# Altium schematic symbol library intrgrat_lib.SchLib: 36 symbols
Pins are listed as number, name and electrical type; pins without a type are passive.

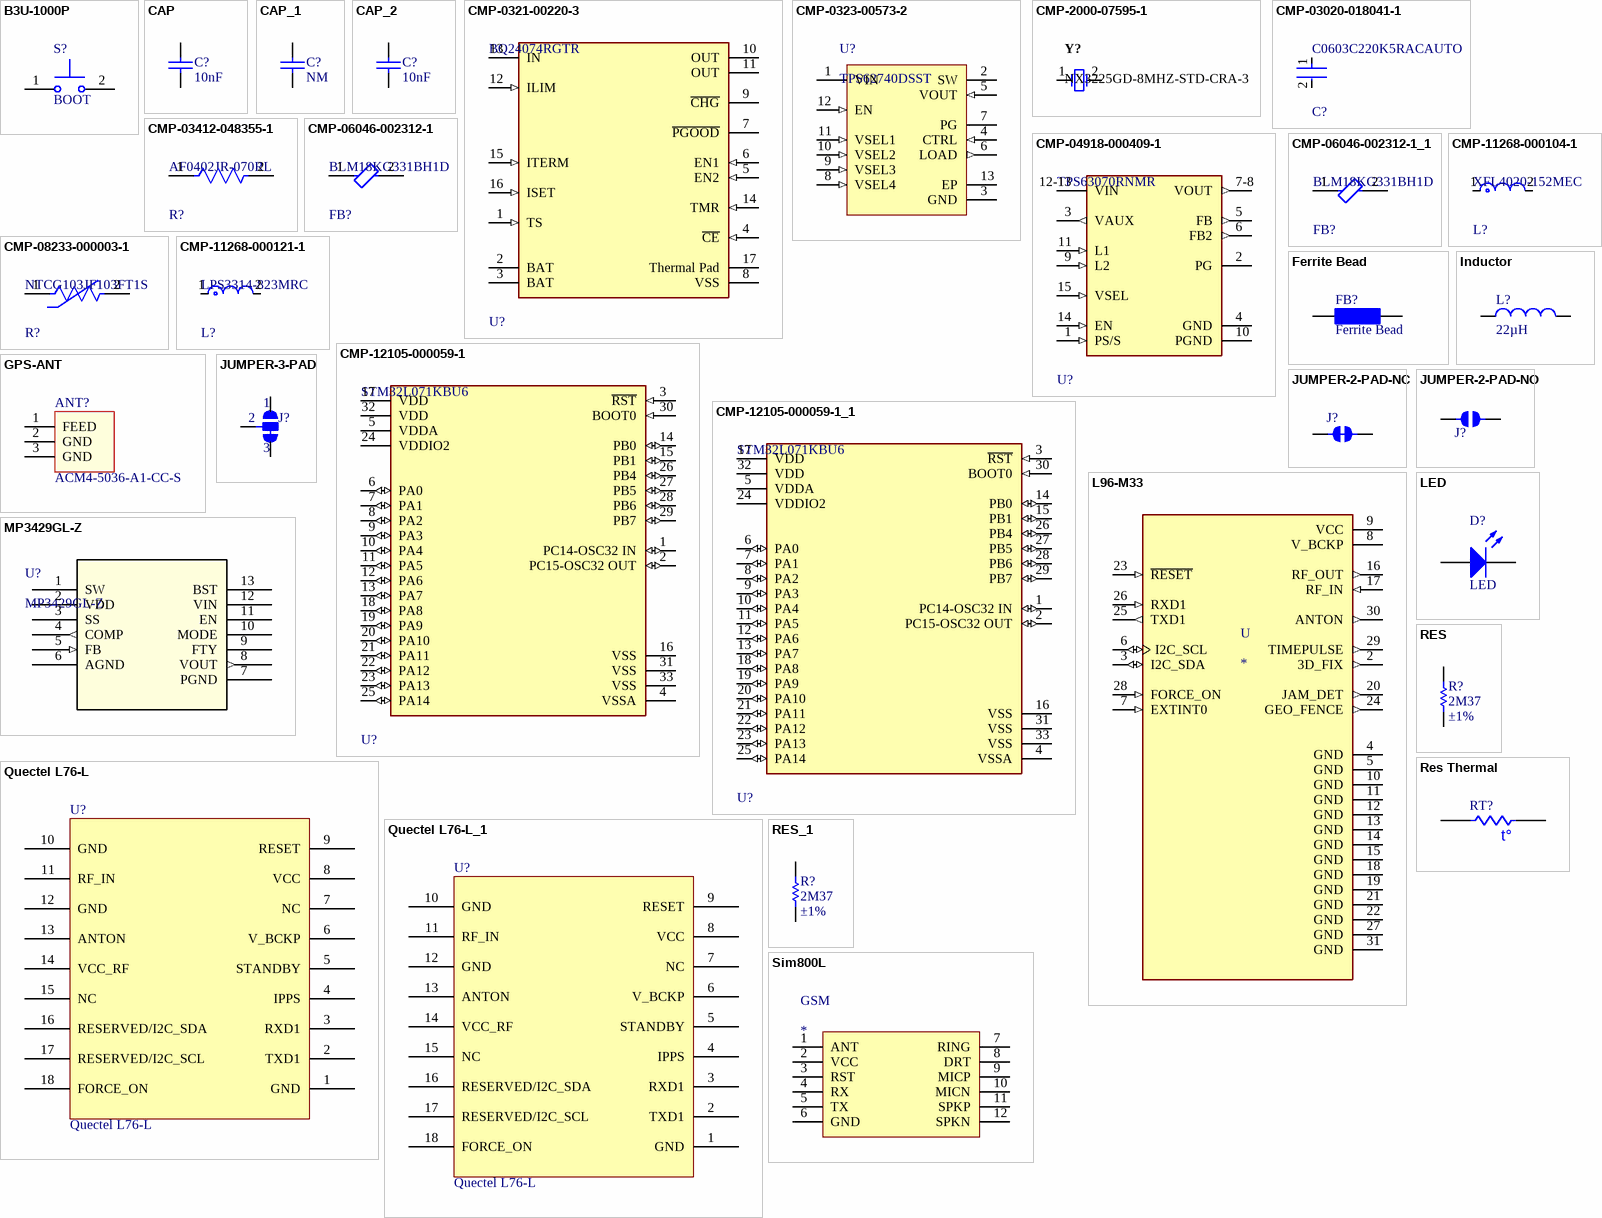
[diagram p0: symbols B3U-1000P to Sim800L]

## B3U-1000P
designator S?, comment BOOT
SWITCH TACTILE SPST-NO 0.05A 12V; PartNumber: B3U-1000P; Manufacturer: Omron Electronic Components; SymbolCreator: a0412235; VDC_V: 12; SwitchFunction: Off-Mom; PositionCount: 1; CurrentRating_mA: 50; SymbolVersion: 2012-10-29; MountType: SMT; ComponentLink1Description: Datasheet URL; ComponentLink1URL: http://www.components.omron.com/components/web/PDFLIB.nsf/0/2DD3893C7DD33E9E862572900079E9D6/$file/B3U_1110.pdf; RoHS: Y; Circuit: SPST-NO; Orientation: Top Actuated; CompType: Switch; PackageReference: 3x1.6x2.5mm; Publisher: Texas Instruments; LatestRevisionDate: 2015-03-16; Supplier 1: Digi-Key; Supplier Part Number 1: SW1020CT-ND; Supplier 2: Mouser; Supplier Part Number 2: 653-B3U-1000P; Supplier 3: Farnell; Supplier Part Number 3: 1333652
footprint SW_B3U-1000P
pins: 1, 2

## CAP
designator C?  value 10nF  (hidden comment: CAP)
CAP CER 0.1UF 10V X7R 0603; Part Number: C00062; Manufacturer: KEMET - Electronic Component; Manufacturer Part Number: C0603C104K8RACTU; Tolerance: ±10%; Supplier 1: Digi-Key; Supplier Part Number 1: 399-1095-2-ND; HelpURL: http://www.kemet.com/Lists/ProductCatalog/Attachments/53/KEM_C1002_X7R_SMD.pdf; Operating Temperature: -55°C ~ 125°C; Type: CER; Temperature Coefficient: X7R; Voltage: 10V
footprint C0402 - duplicate
footprint C0603
footprint C0805
footprint C1206
pins: 1, 2

## CAP_1
designator C?, comment value NM  (hidden comment: CAP)
CAP CER 0.1UF 10V X7R 0603; Part Number: C00062; Manufacturer: KEMET - Electronic Component; Manufacturer Part Number: C0603C104K8RACTU; Tolerance: ±10%; Supplier 1: Digi-Key; Supplier Part Number 1: 399-1095-2-ND; HelpURL: http://www.kemet.com/Lists/ProductCatalog/Attachments/53/KEM_C1002_X7R_SMD.pdf; Operating Temperature: -55°C ~ 125°C; Type: CER; Temperature Coefficient: X7R; Voltage: 10V
footprint C0402
footprint C0603
footprint C0805
footprint C1206
footprint C0201 (Surface Mount Ceramic Chip Capacitors – C0201 Series)
pins: 1, 2

## CAP_2
designator C?, comment value 10nF  (hidden comment: CAP)
CAP CER 0.1UF 10V X7R 0603; Part Number: C00062; Manufacturer: KEMET - Electronic Component; Manufacturer Part Number: C0603C104K8RACTU; Tolerance: ±10%; Supplier 1: Digi-Key; Supplier Part Number 1: 399-1095-2-ND; HelpURL: http://www.kemet.com/Lists/ProductCatalog/Attachments/53/KEM_C1002_X7R_SMD.pdf; Operating Temperature: -55°C ~ 125°C; Type: CER; Temperature Coefficient: X7R; Voltage: 10V
footprint C0402
footprint C0603
footprint C0805
footprint C1206
pins: 1, 2

## CMP-0321-00220-3
designator U?, comment BQ24074RGTR
IC LI-ION CHARGE MGMT 16-QFN; Fault Protection: Over Voltage; Max Charge Current: 1.5A; Interface: USB; Max Supply Voltage: 10.2V; Number of Cells: 1; Battery Pack Voltage: 4.2V; Min Supply Voltage: 4.35V; Battery Chemistry: LITHIUM-ION; Min Input Voltage: 4.3V; Lead Free: Lead Free; Max Operating Temperature: 125°C; RoHS Compliant: Yes; Contact Plating: Gold; Min Operating Temperature: -40°C; Weight: 0.000808oz; Package Quantity: 3000; Radiation Hardening: No; Case/Package: VQFN; Output Voltage: 4.2V; Packaging: Tape and Reel; Series: -; Output Current: 1.5A; Number of Pins: 16
footprint FP-RGT0016C-MFG
footprint FP-RGT0016C-IPC_C
footprint FP-RGT0016C-IPC_B
footprint FP-RGT0016C-IPC_A
pins: 1 TS (in), 2 BAT (power), 3 BAT (power), 4 ~{CE} (in), 5 EN2 (in), 6 EN1 (in), 7 ~{PGOOD} (hiz), 8 VSS (power), 9 ~{CHG} (hiz), 10 OUT (power), 11 OUT (power), 12 ILIM (in), 13 IN (power), 14 TMR (in), 15 ITERM (in), 16 ISET (in), 17 Thermal Pad (power)

## CMP-0323-00573-2
designator U?, comment TPS62740DSST
Step Down Converter For Low Power Applications, 2.2 to 5.5 V VIN, -40 to 85 degC, 12-Pin WSON (DSS), RoHS, Tape and Reel; VIN Min: 2.2 V; VOUT Max: 3.3 V; VOUT Min: 1.8 V; VIN Max: 5.5 V; PackageVersion: 4209244/C, 07/2011; ComponentLink1URL: http://www.ti.com/; Packing: Tape and Reel; PartNumber: TPS62740; ComponentLink2URL: http://www.ti.com/lit/ds/symlink/tps62740.pdf; RoHS: TRUE; ComponentLink3Description: Package Specification; Temperature Min: -40 degC; ComponentLink1Description: Manufacturer URL; PackageReference: DSS0012A; ComponentLink2Description: Datasheet; DatasheetVersion: SLVSB02B; Temperature Max: 85 degC; ComponentLink3URL: http://www.ti.com/litv/pdf/mpds336b; PackageDescription: 12-Pin Plastic Small Outline, Body 3 x 2 mm, Pitch 0.5 mm; Mounting Technology: Surface Mount
footprint DSS0012A_V (SON, 12-Leads, Body 2x3mm, Pitch 0.5mm, Thermal Pad 2x0.9mm, TI Recommended)
pins: 1 VIN (power) "VIN power supply pin. Connect this pin close to the VIN terminal of the input capacitor. A ceramic capacitor of 4.7 uF is required.", 2 SW (power) "This is the switch pin and is connected to the internal MOSFET switches. Connect the inductor to this terminal.", 3 GND (power) "GND supply pin. Connect this pin close to the GND terminal of the input and output capacitor.", 4 CTRL (in) "This pin controls the output LOAD pin. With CTRL = low, the output LOAD is disabled. This pin must be terminated.", 5 VOUT (in) "Feedback pin for the internal feedback divider network and regulation loop. An internal load switch is connected between this pin and the LOAD pin. Connect this pin directly to the output capacitor with a short trace.", 6 LOAD (out) "This output is controlled by the CTRL Pin. With CTRL high, an internal load switch connects the LOAD pin to the VOUT pin. The LOAD pin allows to connect / disconnect other system components to the output of the DC/DC (See Datasheet)", 7 PG (hiz) "Power good open drain output. This pin is high impedance to indicate "Power Good". Connect a external pull up resistor to generate a "high" level. If not used, this pin can be left open.", 8 VSEL4 (in) "Output voltage selection pin.", 9 VSEL3 (in) "Output voltage selection pin.", 10 VSEL2 (in) "Output voltage selection pin.", 11 VSEL1 (in) "Output voltage selection pin.", 12 EN (in) "High level enables the devices, low level turns the device into shutdown mode. This pin must be terminated.", 13 EP (power) "Not electrically connected to the IC, but must be soldered. Connect this pad to GND and use it as a central GND plane."

## CMP-2000-07595-1
designator Y?, comment NX3225GD-8MHZ-STD-CRA-3
Crystal Unit, 8 MHz, 8 pF, -40 to 150 degC, 2-Pin SMD, RoHS, Tape and Reel; Manufacturer: NDK; Load Capacitance: 8pF; ESR (Equivalent Series Resistance): 500Ohm; Frequency Tolerance: 50ppm; Frequency Stability: 150ppm; Frequency: 8MHz; Case/Package: SMD/SMT; Datasheet Version: 11/2016; Min Operating Temperature: -40degC; Packaging: TapeandReel; Width: 0.098inch; Package Quantity: 3000; Number of Pins: 2; Package Description: 2-Pin Surface Mount Device, Body 3.2 x 2.5 mm; RoHSCompliant: True; Package Reference: NX3225GD-8MHZ-STD-CRA-3; Datasheet URL: http://www.ndk.com/images/products/catalog/c_NX3225GD-STD-CRA-3_e.pdf; Mounting Technology: SurfaceMount; Length: 0.126inch; Mount: SurfaceMount; Manufacturer URL: http://www.ndk.com/en/; Max Operating Temperature: 150degC; Height: 0.039inch
footprint NDK-NX3225GD-8MHZ-STD-CRA-3_V (SMD, 2-Leads, Body 3.2x2.5mm)
pins: 1, 2

## CMP-03020-018041-1
designator C?, comment C0603C220K5RACAUTO
Cap Ceramic 22pF 50V X7R 10% SMD 0603 125°C Punched Paper T/R; Manufacturer: KEMET; Tolerance: 0.1; Temperature Coefficient: 30ppm/°C; Automotive Grade: Grade 1; Capacitance: 22 pF; Temperature Range High: +125°C; Height: 0.87mm; Automotive: Yes; Temperature Range Low: -55°C; Category: Cap; Digikey Description: Cap Ceramic 22pF 50V X7R 10% SMD 0603 125°C Punched Paper T/R; Temperature Characteristic: X7R; Device Class L3: Ceramic Capacitors; ComponentLink2URL: https://api.kemet.com/component-edge/download/datasheet/C0603C100J5GACAUTO.pdf; Manufacturer Part Number: C0603C220K5RACAUTO; Value: 22 pF; Device Class L1: Passive Components; Package: C0603C-CF; Material: Ceramic; RoHS: TRUE; Lead Free: Yes; ComponentLink2Description: Datasheet; Device Class L2: Capacitors; Mouser Description: Cap Ceramic 22pF 50V X7R 10% SMD 0603 125°C Punched Paper T/R; Temperature: -55°C to +125°C; Octopart: https://octopart.com/c0603c220k5racauto-kemet-70963357; Voltage Rating: 50 V
footprint FP-C0603C-CF-IPC_B
footprint FP-C0603C-CF-MFG
footprint FP-C0603C-CF-IPC_A
footprint FP-C0603C-CF-IPC_C
pins: 1, 2

## CMP-03412-048355-1
designator R?, comment AF0402JR-070RL
Anti-Sulfurated Chip Resistors Automotive Grade 0Ω 0402; Tolerance: 5%; Resistance: 0R; Max Power Dissipation: 63mW; Case Code (Metric): 1005; Packaging: Tape and Reel; Features: Moisture Resistant; Termination: SMD/SMT; Package Quantity: 10000; RoHS Compliant: Yes; Case/Package: 0402; Number of Terminations: 2; Series: AF; Length: 0.039inch; Max Operating Temperature: 155°C; Min Operating Temperature: -55°C; Resistor Type: Thick Film; Height: 0.015inch; Weight: 2.3E-05oz; Width: 0.5mm; Case Code (Imperial): 0402
footprint FP-AF0402-MFG
footprint FP-AF0402-IPC_C
footprint FP-AF0402-IPC_B
footprint FP-AF0402-IPC_A
footprint FP-AF0402-IPC_A
pins: 1, 2

## CMP-04918-000409-1
designator U?, comment TPS63070RNMR
IC REG BCK BST ADJ 3.6A 15VQFN; Synchronous Rectifier: Yes; Output Type: Adjustable; Output Current: 2A; Max Input Voltage: 16V; Switching Frequency: 2.4MHz; Min Output Voltage: 2.5V; Output Configuration: Positive; Min Input Voltage: 2V; Topology: Buck-Boost; Number of Outputs: 1; Max Output Voltage: 9V; Quiescent Current: 50uA; Max Operating Temperature: 125°C; Case/Package: VQFN; Number of Pins: 15; RoHS Compliant: Yes; Mount: Surface Mount; Min Operating Temperature: -40°C; Lead Free: Lead Free; Packaging: Tape and Reel
footprint FP-RNM0015A-MFG
pins: 1 PS/S (in), 2 PG (oc), 3 VAUX (out), 4 GND (power), 5 FB (out), 6 FB2 (out), 7-8 VOUT (out), 9 L2 (in), 10 PGND (power), 11 L1 (in), 12-13 VIN (power), 14 EN (in), 15 VSEL (in)

## CMP-06046-002312-1
designator FB?, comment BLM18KG331BH1D
Chip Ferrite Bead, 0603, 330Ω @ 100MHz, 0.08Ω, 25%, 1.2A; DC Resistance (DCR): 80mR; Number of Lines: 1; Case/Package: 0603; Max Operating Temperature: 150°C; Max Current Rating: 1.2A; Case Code (Metric): 1608; Case Code (Imperial): 0603; RoHS Compliant: Yes; Ratings: AEC-Q200; Min Operating Temperature: -55°C
footprint FP-BLM18-0_15-t0_8-IPC_B
footprint FP-BLM18-0_15-t0_8-IPC_C
footprint FP-BLM18-0_15-t0_8-IPC_A
footprint FP-BLM18-0_15-t0_8-MFG
pins: 1, 2

## CMP-06046-002312-1_1
designator FB?, comment BLM18KG331BH1D
Chip Ferrite Bead, 0603, 330Ω @ 100MHz, 0.08Ω, 25%, 1.2A; DC Resistance (DCR): 80mR; Number of Lines: 1; Case/Package: 0603; Max Operating Temperature: 150°C; Max Current Rating: 1.2A; Case Code (Metric): 1608; Case Code (Imperial): 0603; RoHS Compliant: Yes; Ratings: AEC-Q200; Min Operating Temperature: -55°C
footprint FP-BLM18-0_15-t0_8-IPC_B
footprint FP-BLM18-0_15-t0_8-IPC_C
footprint FP-BLM18-0_15-t0_8-IPC_A
footprint FP-BLM18-0_15-t0_8-MFG
pins: 1, 2

## CMP-08233-000003-1
designator R?, comment NTCG103JF103FT1S
THERMISTOR NTC 10KOHM 3380K 0402; Tolerance: 1%; Packaging: Tape and Reel; Number of Pins: 2; Min Operating Temperature: -40°C; Case/Package: 0402; Mount: Surface Mount; Case Code (Metric): 1005; Max Operating Temperature: 125°C; Case Code (Imperial): 0402
footprint FP-NTCG10-MFG
footprint FP-NTCG10-IPC_C
footprint FP-NTCG10-IPC_A
footprint FP-NTCG10-IPC_B
pins: 1, 2

## CMP-11268-000104-1
designator L?, comment XFL4020-152MEC
Inductor Power Shielded Wirewound 1.5uH 20% 100KHz 9.1A 15.8mOhm DCR 1515 Automotive Embossed Plastic T/R; Core Material: Composite; DC Resistance (DCR): 15.8mR; Saturation Current: 4.1A; Self Resonant Frequency: 59MHz; Tolerance: 20%; Inductance: 1.5uH; Max DC Current: 9.1A; RoHS Compliant: Yes; Max Operating Temperature: 125°C; Length: 4.3mm; Case/Package: SMD/SMT; Mount: Surface Mount; Shielding: Shielded; Min Operating Temperature: -40°C; RMS Current (Irms): 9.1A; Test Frequency: 100kHz; Inductance Tolerance: 20%; REACH SVHC: No SVHC; Packaging: Tape and Reel; Termination: SMD/SMT; Lead Free: Contains Lead; Width: 4.3mm; Series: XFL4020; Height: 2.1mm
footprint FP-XFL4020-MFG
pins: 1, 2

## CMP-11268-000121-1
designator L?, comment LPS3314-823MRC
Fixed Inductors 82uH Shld 20% 260mA 2 Ohms
footprint FP-LPS3314-MFG
pins: 1, 2

## CMP-12105-000059-1
designator U?, comment STM32L071KBU6
IC MCU 32BIT 128KB FLASH 32QFPN; Manufacturer: STMicroelectronics; Number Of Uart Channels: 4; Number Of Adc Channels: 10; Max Junction Temp: +105°C; Number Of Cores: 1; Min Supply Voltage: 1.8V; Interface: I2C,SPI,UART,USART,LIN,IrDA,SMBus,Other; Frequency: 32MHz; Data Bus Width: 32bits; Number Of Timers/Counters: 9; Core Architecture: Arm Cortex-M0+; Number Of I2C Channels: 2; Memory Size: 128KBytes; Ram Size: 20KBytes; Number Of I/Os: 23; Max Supply Voltage: 3.6V; Device Class L3: Microcontrollers; Lead Free: Yes; Memory Type: FLASH; Ambient Temperature Range High: +85°C; RoHS: TRUE; ComponentLink2Description: Datasheet; Device Class L1: Integrated Circuits (ICs); Automotive: No; Temperature Range Low: -40°C; Octopart: https://octopart.com/stm32l071kbu6-stmicroelectronics-67270308; Ipc Land Pattern Name: QFN50P500X500X55-32; Number Of A/D Converters: 1; Height: 0.6mm; Manufacturer Part Number: STM32L071KBU6; Temperature Range High: +85°C; Digikey Description: IC MCU 32BIT 128KB FLASH 32QFPN; Mouser Description: ARM Microcontrollers - MCU; Category: IC; Number Of Spi Channels: 4; ComponentLink2URL: https://www.st.com/resource/en/datasheet/stm32l071cb.pdf; Ambient Temperature Range Low: -40°C; Package: UFQFPN32-A0B8; Device Class L2: Embedded Processors and Controllers; Temperature: -40°C to +85°C
footprint FP-UFQFPN32-A0B8-IPC_B
footprint FP-UFQFPN32-A0B8-MFG
footprint FP-UFQFPN32-A0B8-IPC_C
footprint FP-UFQFPN32-A0B8-IPC_A
pins: 1 PC14-OSC32 IN (io), 2 PC15-OSC32 OUT (io), 3 ~{RST} (in), 4 VSSA (power), 5 VDDA (power), 6 PA0 (io), 7 PA1 (io), 8 PA2 (io), 9 PA3 (io), 10 PA4 (io), 11 PA5 (io), 12 PA6 (io), 13 PA7 (io), 14 PB0 (io), 15 PB1 (io), 16 VSS (power), 17 VDD (power), 18 PA8 (io), 19 PA9 (io), 20 PA10 (io), 21 PA11 (io), 22 PA12 (io), 23 PA13 (io), 24 VDDIO2 (power), 25 PA14 (io), 26 PB4 (io), 27 PB5 (io), 28 PB6 (io), 29 PB7 (io), 30 BOOT0 (in), 31 VSS (power), 32 VDD (power), 33 VSS (power)

## CMP-12105-000059-1_1
designator U?, comment STM32L071KBU6
IC MCU 32BIT 128KB FLASH 32QFPN; Manufacturer: STMicroelectronics; Number Of Uart Channels: 4; Number Of Adc Channels: 10; Max Junction Temp: +105°C; Number Of Cores: 1; Min Supply Voltage: 1.8V; Interface: I2C,SPI,UART,USART,LIN,IrDA,SMBus,Other; Frequency: 32MHz; Data Bus Width: 32bits; Number Of Timers/Counters: 9; Core Architecture: Arm Cortex-M0+; Number Of I2C Channels: 2; Memory Size: 128KBytes; Ram Size: 20KBytes; Number Of I/Os: 23; Max Supply Voltage: 3.6V; Device Class L3: Microcontrollers; Lead Free: Yes; Memory Type: FLASH; Ambient Temperature Range High: +85°C; RoHS: TRUE; ComponentLink2Description: Datasheet; Device Class L1: Integrated Circuits (ICs); Automotive: No; Temperature Range Low: -40°C; Octopart: https://octopart.com/stm32l071kbu6-stmicroelectronics-67270308; Ipc Land Pattern Name: QFN50P500X500X55-32; Number Of A/D Converters: 1; Height: 0.6mm; Manufacturer Part Number: STM32L071KBU6; Temperature Range High: +85°C; Digikey Description: IC MCU 32BIT 128KB FLASH 32QFPN; Mouser Description: ARM Microcontrollers - MCU; Category: IC; Number Of Spi Channels: 4; ComponentLink2URL: https://www.st.com/resource/en/datasheet/stm32l071cb.pdf; Ambient Temperature Range Low: -40°C; Package: UFQFPN32-A0B8; Device Class L2: Embedded Processors and Controllers; Temperature: -40°C to +85°C
footprint FP-UFQFPN32-A0B8-IPC_B
footprint FP-UFQFPN32-A0B8-MFG
footprint FP-UFQFPN32-A0B8-IPC_C
footprint FP-UFQFPN32-A0B8-IPC_A
pins: 1 PC14-OSC32 IN (io), 2 PC15-OSC32 OUT (io), 3 ~{RST} (in), 4 VSSA (power), 5 VDDA (power), 6 PA0 (io), 7 PA1 (io), 8 PA2 (io), 9 PA3 (io), 10 PA4 (io), 11 PA5 (io), 12 PA6 (io), 13 PA7 (io), 14 PB0 (io), 15 PB1 (io), 16 VSS (power), 17 VDD (power), 18 PA8 (io), 19 PA9 (io), 20 PA10 (io), 21 PA11 (io), 22 PA12 (io), 23 PA13 (io), 24 VDDIO2 (power), 25 PA14 (io), 26 PB4 (io), 27 PB5 (io), 28 PB6 (io), 29 PB7 (io), 30 BOOT0 (in), 31 VSS (power), 32 VDD (power), 33 VSS (power)

## Ferrite Bead
designator FB?
PackageDescription: Chip Bead Inductor
footprint L0402
footprint L0603
footprint L0805
pins: 1, 2

## GPS-ANT
designator ANT?, comment ACM4-5036-A1-CC-S
GPS+Glonass Ceramic Chip Antenna, 5.2x3.6x0.7mm; PartNumber: ACM4-5036-A1-CC-S
footprint ANTC5237X07N (Ceramic Chip Antenna, 3-Leads, Body 5.20x3.70mm, IPC Medium Density)
pins: 1 FEED, 2 GND, 3 GND

## Inductor
designator L?  value 22µH  (hidden comment: Inductor)
Manufacturer 1: Coilcraft; Manufacturer Part Number 1: LPS4018-223MR; Current: 830mA; DC Resistance (DCR): 360 mOhms; Frequency - Self Resonant: 9MHz; Material - Core: Ferrite; Tolerance: ±20%; Type: Ferrite Core; Package / Case: LPS4018; Supplier 1: Coilcraft; Supplier Part Number 1: LPS4018-223MR
simulation model INDUCTOR (Inductor)
signal-integrity model Inductor
footprint IND_COILCRAFT_LPS4018 (Shielded Power Inductor, Body 4.0x4.0x1.8mm)
pins: 1, 2

## JUMPER-2-PAD-NC
designator J?  (value not drawn)
Value: JUMPER-2-PAD-NC
footprint JUMPER-2-NC
pins: 1, 2

## JUMPER-2-PAD-NO
designator J?  (value not drawn)
Value: JUMPER-2-PAD-NO
footprint JUMPER-2-NO
pins: 1, 2

## JUMPER-3-PAD
designator J?  (value not drawn)
Value: JUMPER-3-PAD
footprint JUMPER-3-NC
pins: 1, 2, 3

## L96-M33
designator U
L96 is a concurrent multi-GNSS receiver module with embedded chip antenna. With 33 tracking channels, 99 acquisition channels and 210 PRN channels, L96 supports concurrent reception of up to three GNSS systems (GPS+GLONASS+Galileo); MP: L96-M33; MF: Quectel; SnapEDA_Link: https://www.snapeda.com/parts/L96-M33/Quectel/view-part/2780781/?ref=snap; Price: None; Availability: Unavailable; Value: *; Package: None
footprint XCVR_L96-M33
pins: 2 3D_FIX (out), 3 I2C_SDA (io), 4 GND (power), 5 GND (power), 6 I2C_SCL (io), 7 EXTINT0 (in), 8 V_BCKP (power), 9 VCC (power), 10 GND (power), 11 GND (power), 12 GND (power), 13 GND (power), 14 GND (power), 15 GND (power), 16 RF_OUT (out), 17 RF_IN (in), 18 GND (power), 19 GND (power), 20 JAM_DET (out), 21 GND (power), 22 GND (power), 23 ~{RESET} (in), 24 GEO_FENCE (out), 25 TXD1 (out), 26 RXD1 (in), 27 GND (power), 28 FORCE_ON (in), 29 TIMEPULSE (out), 30 ANTON (out), 31 GND (power)

## LED
designator D?
Typical RED GaAs LED; Manufacturer: Lite-On Inc.; PartNumber: LTST-C190GKT; Published: 8-Jun-2000; LatestRevisionDate: 2016-10-04; LatestRevisionNote: Mech Layer 1 removed.; PackageReference: LED-1; Publisher: Walid Balid; PackageDescription: LED; 2 Leads; ComponentLink1Description: Datasheet link; ComponentLink1URL: http://media.digikey.com/pdf/Data%20Sheets/Lite-On%20PDFs/LTST-C190GKT.pdf; RoHS: Y; Supplier 1: Digi-Key; Supplier Part Number 1: 160-1183-1-ND
footprint LED-0603-B; pin to pad 1>A 2>K
footprint LED-0603-G; pin to pad 1>A 2>K
footprint LED-0603-R; pin to pad 1>A 2>K
footprint LED-0603-Y; pin to pad 1>A 2>K
pins: 1 A, 2 K

## MP3429GL-Z
designator U?
21A 16VOUT High-Efficiency Fully Integrated Synchronous High-Power Boost Converter Support 30W Power Load; Manufacturer_Name: Monolithic Power Systems; Copyright: Copyright (C) 2025 Ultra Librarian. All rights reserved.; Manufacturer_Part_Number: MP3429GL-Z; RefDes: RefDes; Type: Type
footprint QFN-3x4_MP3429_MNP
pins: 1 SW, 2 VDD (power), 3 SS, 4 COMP (out), 5 FB (in), 6 AGND (power), 7 PGND (power), 8 VOUT (out), 9 FTY, 10 MODE, 11 EN, 12 VIN (power), 13 BST

## Quectel L76-L
designator U?
Quectel L70  Compact GPS Module  Ultra Low Consumption  Fast Positioning; ComponentLink1Description: Manufacturer URL; ComponentLink1URL: http://www.quectel.com/product/prodetail.aspx?id=30; ComponentLink2Description: Datasheet; ComponentLink2URL: http://www.quectel.com/UploadFile/Product/Quectel_L76_GNSS_Specification_V1.4.pdf
footprint L76
pins: 1 GND, 2 TXD1, 3 RXD1, 4 IPPS, 5 STANDBY, 6 V_BCKP, 7 NC, 8 VCC, 9 RESET, 10 GND, 11 RF_IN, 12 GND, 13 ANTON, 14 VCC_RF, 15 NC, 16 RESERVED/I2C_SDA, 17 RESERVED/I2C_SCL, 18 FORCE_ON

## Quectel L76-L_1
designator U?, comment Quectel L76-L
Quectel L70  Compact GPS Module  Ultra Low Consumption  Fast Positioning; ComponentLink1Description: Manufacturer URL; ComponentLink1URL: http://www.quectel.com/product/prodetail.aspx?id=30; ComponentLink2Description: Datasheet; ComponentLink2URL: http://www.quectel.com/UploadFile/Product/Quectel_L76_GNSS_Specification_V1.4.pdf
footprint L76
pins: 1 GND, 2 TXD1, 3 RXD1, 4 IPPS, 5 STANDBY, 6 V_BCKP, 7 NC, 8 VCC, 9 RESET, 10 GND, 11 RF_IN, 12 GND, 13 ANTON, 14 VCC_RF, 15 NC, 16 RESERVED/I2C_SDA, 17 RESERVED/I2C_SCL, 18 FORCE_ON

## RES
designator R?  value 2M37  Tolerance: ±1%  (hidden comment: RES)
RES SMD 15 OHM 1% 1/10W 0603; Part Number: R00007; Manufacturer: Yageo; Manufacturer Part Number: RC0603FR-0715RL; Temperature Coefficient: ±100ppm/°C; Supplier 1: Digi-Key; Supplier Part Number 1: 311-15.0HRCT-ND; HelpURL: http://www.yageo.com/NewPortal/yageodocoutput?fileName=/pdf/R-Chip/PYu-RC_Group_51_RoHS_L_3.pdf; Power: 1/10W; Operating Temperature: -55°C ~ 155°C
footprint R0402
footprint R0603
footprint R0805
footprint R1206
pins: 1, 2

## Res Thermal
designator RT?  (value not drawn)
Thermistor; Published: 24-Mar-1999; LatestRevisionDate: 29-May-2009; LatestRevisionNote: IPC-7351 Footprint Added.; PackageVersion: Mar-2003; PackageReference: 6-0805; Publisher: Altium Limited; PackageDescription: Chip Resistor 0805 Case Size; Code_IPC: RESC2012
footprint 6-0805_N (Chip Resistor, Body 2.0x1.2mm, IPC Medium Density)
footprint 6-0805_L (Chip Resistor, Body 2.0x1.2mm, IPC High Density)
footprint 6-0805_M (Chip Resistor, Body 2.0x1.2mm, IPC Low Density)
pins: 1, 2
text: t°

## RES_1
designator R?, comment value 2M37  Tolerance: ±1%  (hidden comment: RES)
RES SMD 15 OHM 1% 1/10W 0603; Part Number: R00007; Manufacturer: Yageo; Manufacturer Part Number: RC0603FR-0715RL; Temperature Coefficient: ±100ppm/°C; Supplier 1: Digi-Key; Supplier Part Number 1: 311-15.0HRCT-ND; HelpURL: http://www.yageo.com/NewPortal/yageodocoutput?fileName=/pdf/R-Chip/PYu-RC_Group_51_RoHS_L_3.pdf; Power: 1/10W; Operating Temperature: -55°C ~ 155°C
footprint R0402
footprint R0603
footprint R0805
footprint R1206
pins: 1, 2

## Sim800L
designator GSM
footprint Sim800L
pins: 1 ANT, 2 VCC, 3 RST, 4 RX, 5 TX, 6 GND, 7 RING, 8 DRT, 9 MICP, 10 MICN, 11 SPKP, 12 SPKN

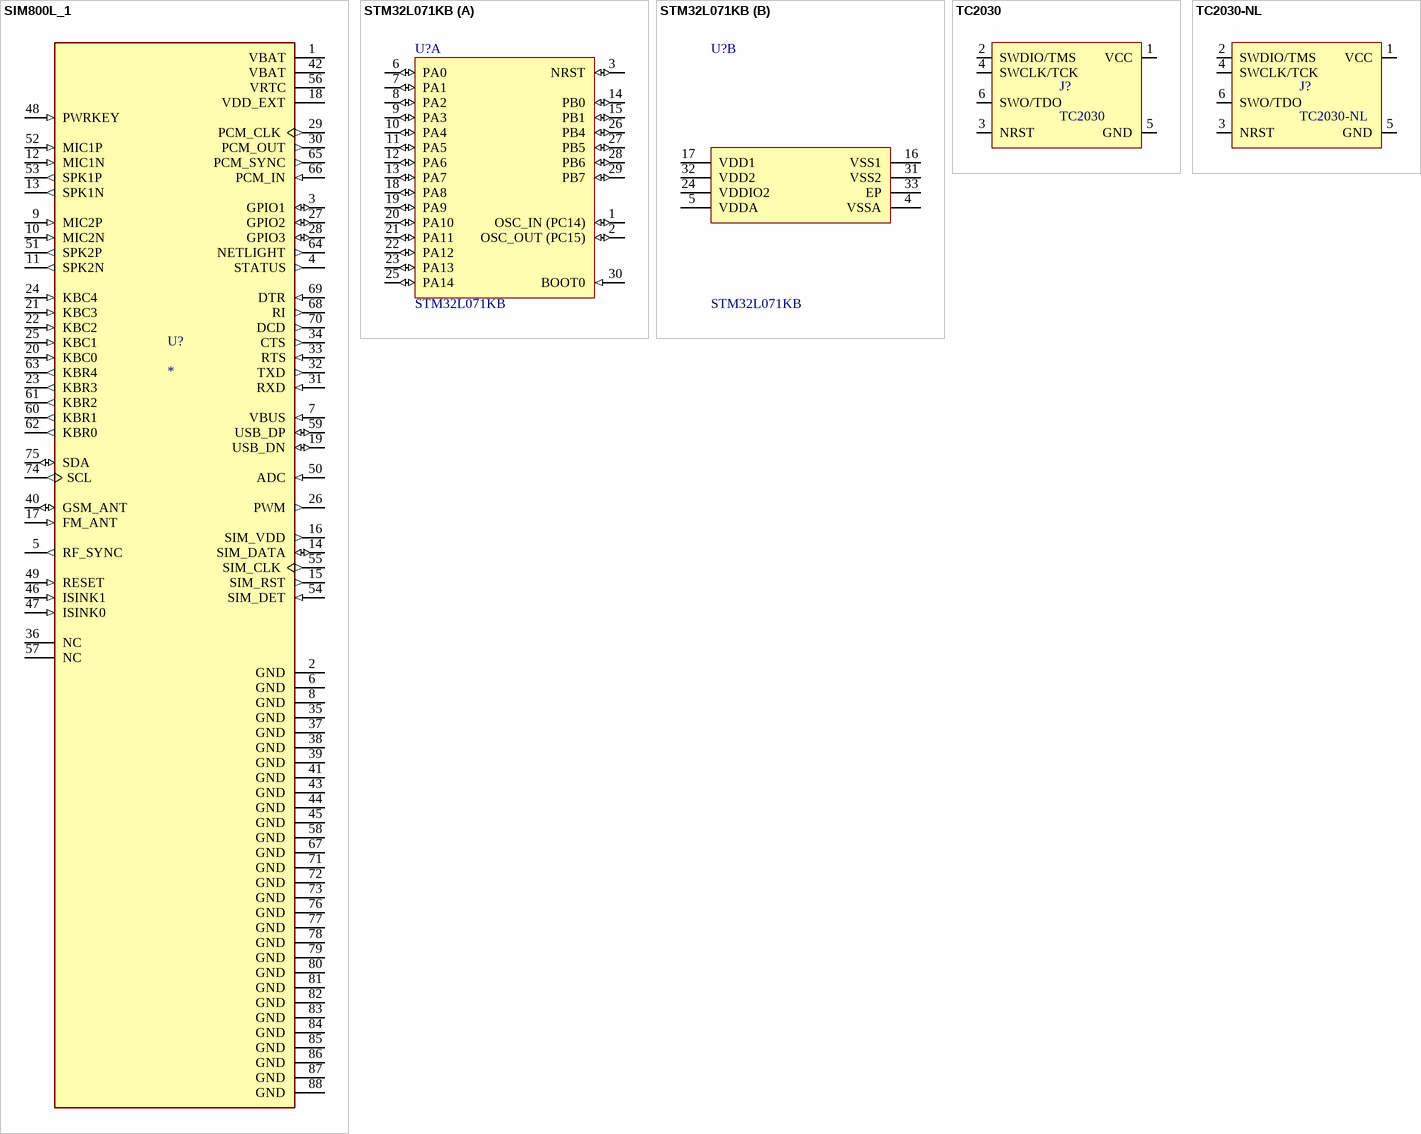
[diagram p1: symbols SIM800L_1 to TC2030-NL]

## SIM800L_1
designator U?
SIM800L GSM RF M5Stack Platform Evaluation Expansion Board; MF: Simcom; SnapEDA_Link: https://www.snapeda.com/parts/SIM800L/SIMCom/view-part/?ref=snap; Package: None; Value: *; MP: SIM800L; Check_prices: https://www.snapeda.com/parts/SIM800L/SIMCom/view-part/?ref=eda
footprint MODULE_SIM800L
pins: 1 VBAT (power), 2 GND (power), 3 GPIO1 (io), 4 STATUS (out), 5 RF_SYNC (out), 6 GND (power), 7 VBUS (in), 8 GND (power), 9 MIC2P (in), 10 MIC2N (in), 11 SPK2N (out), 12 MIC1N (in), 13 SPK1N (out), 14 SIM_DATA (io), 15 SIM_RST (out), 16 SIM_VDD (out), 17 FM_ANT (in), 18 VDD_EXT (power), 19 USB_DN (io), 20 KBC0 (in), 21 KBC3 (in), 22 KBC2 (in), 23 KBR3 (out), 24 KBC4 (in), 25 KBC1 (in), 26 PWM (out), 27 GPIO2 (io), 28 GPIO3 (io), 29 PCM_CLK (out), 30 PCM_OUT (out), 31 RXD (in), 32 TXD (out), 33 RTS (in), 34 CTS (out), 35 GND (power), 36 NC, 37 GND (power), 38 GND (power), 39 GND (power), 40 GSM_ANT (io), 41 GND (power), 42 VBAT (power), 43 GND (power), 44 GND (power), 45 GND (power), 46 ISINK1 (in), 47 ISINK0 (in), 48 PWRKEY (in), 49 RESET (in), 50 ADC (in), 51 SPK2P (out), 52 MIC1P (in), 53 SPK1P (out), 54 SIM_DET (in), 55 SIM_CLK (out), 56 VRTC (power), 57 NC, 58 GND (power), 59 USB_DP (io), 60 KBR1 (out), 61 KBR2 (out), 62 KBR0 (out), 63 KBR4 (out), 64 NETLIGHT (out), 65 PCM_SYNC (out), 66 PCM_IN (in), 67 GND (power), 68 RI (out), 69 DTR (in), 70 DCD (out), 71 GND (power), 72 GND (power), 73 GND (power), 74 SCL (out), 75 SDA (io), 76 GND (power), 77 GND (power), 78 GND (power), 79 GND (power), 80 GND (power), 81 GND (power), 82 GND (power), 83 GND (power), 84 GND (power), 85 GND (power), 86 GND (power), 87 GND (power), 88 GND (power)

## STM32L071KB
designator U?
MCU 32-bit STM32 ARM Cortex M0+ RISC 128KB Flash 2.5V/3.3V 32-Pin UFQFPN, -40 to 125 degC; Core: ARM Cortex-M0+; FLASH Size (Prog) (kB): 128; I/Os (High Current): 25; Internal RAM Size (kB): 20; Operating Frequency(F) (Processor speed) (MHz): 48; Packing: Tray; Supply Voltage(Vcc) min (V): 2; DatasheetVersion: Rev. 3; PackageVersion: Rev. 3, 07/2012; PackageReference: UFQFPN32; PackageDescription: 32-Pin Ultra Thin Fine Pitch Quad Flat No-Lead, 5 x 5 x 0.6 mm Body, 0.5 mm Pitch, Exposed Pad; Mounting Technology: Surface Mount; PartNumber: STM32L071KB; ComponentLink1Description: Manufacturer URL; ComponentLink1URL: http://www.st.com/content/st_com/en.html; ComponentLink2Description: Datasheet; ComponentLink2URL: http://www.st.com/content/ccc/resource/technical/document/datasheet/b5/24/80/11/51/59/47/f7/DM00141136.pdf/files/DM00141136.pdf/jcr:content/translations/en.DM00141136.pdf; ComponentLink3Description: Package Specification; ComponentLink3URL: http://www.st.com/content/st_com/en/products/microcontrollers/stm32-32-bit-arm-cortex-mcus/stm32l0-series/stm32l0x1/stm32l071kb.html; Supplier 1: Newark
footprint STM-UFQFPN32_N (QFN, 32-Leads, Body 5.1x5.1mm, Pitch 0.5mm, Thermal Pad 3.5x3.5mm, IPC Medium Density)
footprint STM-UFQFPN32_L (QFN, 32-Leads, Body 5.1x5.1mm, Pitch 0.5mm, Thermal Pad 3.5x3.5mm, IPC High Density)
footprint STM-UFQFPN32_M (QFN, 32-Leads, Body 5.1x5.1mm, Pitch 0.5mm, Thermal Pad 3.5x3.5mm, IPC Low Density)
part A pins: 1 OSC_IN (PC14) (io) "PC14-OSC_IN(PC14)/OSC_IN", 2 OSC_OUT (PC15) (io) "PC15-OSC_OUT(PC15)/OSC_OUT", 3 NRST (io) "Device reset input / internal reset output (active low)", 6 PA0 (io) "PA0/TIM2_CH1,  USART2_CTS,  TIM2_ETR,  USART4_TX,  COMP1_OUT/COMP1_INM,  ADC_IN0,  RTC_TAMP2/WKUP1", 7 PA1 (io) "PA1/EVENTOUT,  TIM2_CH2,  USART2_RTS_DE,  TIM21_ETR,  USART4_RX/COMP1_INP,  ADC_IN1", 8 PA2 (io) "PA2/TIM21_CH1,  TIM2_CH3,  USART2_TX,  LPUART1_TX,  COMP2_OUT/COMP2_INM,  ADC_IN2", 9 PA3 (io) "PA3/TIM21_CH2,  TIM2_CH4,  USART2_RX,  LPUART1_RX/COMP2_INP,  ADC_IN3", 10 PA4 (io) "PA4/SPI1_NSS,  USART2_CK,  TIM22_ETR/COMP1_INM,  COMP2_INM,  ADC_IN4", 11 PA5 (io) "PA5/SPI1_SCK, TIM2_ETR,  TIM2_CH1/COMP1_INM,  COMP2_INM,  ADC_IN5", 12 PA6 (io) "PA6/SPI1_MISO,  TIM3_CH1,  LPUART1_CTS,  TIM22_CH1,  EVENTOUT,  COMP1_OUT/ADC_IN6", 13 PA7 (io) "PA7/SPI1_MOSI,  TIM3_CH2,  TIM22_CH2,  EVENTOUT,  COMP2_OUT/ADC_IN7", 14 PB0 (io) "PB0/ EVENTOUT, TIM3_CH3/ADC_IN8,  VREF_OUT", 15 PB1 (io) "PB1/TIM3_CH4,  LPUART1_RTS_DE/ADC_IN9,  VREF_OUT", 18 PA8 (io) "PA8/MCO, EVENTOUT,  USART1_CK,  I2C3_SCL", 19 PA9 (io) "PA9/MCO, USART1_TX,  I2C1_SCL, I2C3_SMBA", 20 PA10 (io) "PA10/ USART1_RX,  I2C1_SDA", 21 PA11 (io) "PA11/SPI1_MISO,  EVENTOUT,  USART1_CTS,  COMP1_OUT", 22 PA12 (io) "PA12/ SPI1_MOSI,  EVENTOUT,  USART1_RTS_DE,  COMP2_OUT", 23 PA13 (io) "PA13/ SWDIO, LPUART1_RX", 25 PA14 (io) "PA14/SWCLK, USART2_TX,  LPUART1_TX", 26 PB4 (io) "PB4/SPI1_MISO,  TIM3_CH1,  TIM22_CH1,  USART1_CTS,  USART5_RX,  I2C3_SDA/COMP2_INP", 27 PB5 (io) "PB5/SPI1_MOSI,  LPTIM1_IN1,  I2C1_SMBA,  TIM3_CH2/TIM22_CH2,  USART1_CK,  USART5_CK/USART5_  RTS_DE/COMP2_INP", 28 PB6 (io) "PB6/USART1_TX,  I2C1_SCL,  LPTIM1_ETR/COMP2_INP", 29 PB7 (io) "PB7/USART1_RX,  I2C1_SDA,  LPTIM1_IN2,  USART4_CTS/COMP2_INP,  VREF_PVD_IN", 30 BOOT0 (in) "Boot memory selection"
part B pins: 4 VSSA (power), 5 VDDA (power) "Analog power supply", 16 VSS1 (power) "VSS", 17 VDD1 (power) "Digital power supply", 24 VDDIO2 (power) "Digital power supply", 31 VSS2 (power) "VSS", 32 VDD2 (power) "Digital power supply", 33 EP (power) "VSS"

## TC2030
designator J?  (no BOM)
Tag-Connect No-Solder SWD Debug Connector DO NOT PLACE; Manufacturer: Tag-Connect; Manufacturer Part Number: TC2030
footprint TC2030-FP
pins: 1 VCC, 2 SWDIO/TMS, 3 NRST, 4 SWCLK/TCK, 5 GND, 6 SWO/TDO

## TC2030-NL
designator J?  (no BOM)
Tag-Connect No-Solder SWD Debug Connector (No Legs) DO NOT PLACE; Manufacturer Part Number: TC2030-NL-FP; Manufacturer: Tag-Connect
footprint TC2030-NL-FP
pins: 1 VCC, 2 SWDIO/TMS, 3 NRST, 4 SWCLK/TCK, 5 GND, 6 SWO/TDO